# Altium schematic symbol library electromecanique.SchLib: 9 symbols
Pins are listed as number, name and electrical type; pins without a type are passive.

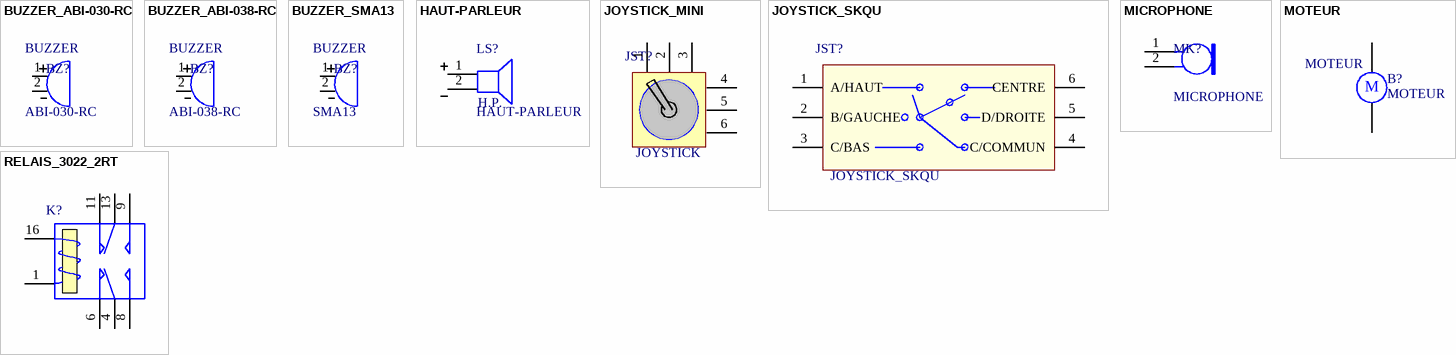
[diagram p0: symbols BUZZER_ABI-030-RC to RELAIS_3022_2RT]

## BUZZER_ABI-030-RC
designator BZ?  value ABI-030-RC  Type: BUZZER  (hidden comment: BUZZER_ABI-030-RC)
BUZZER ABI-030-RC
footprint BUZZER_ABI-030-RC (BUZZER ; DIMENSIONS:  ; ESPACEMENT BROCHES : mm)
pins: 1, 2

## BUZZER_ABI-038-RC
designator BZ?  value ABI-038-RC  Type: BUZZER  (hidden comment: BUZZER_ABI-038-RC)
BUZZER ABI-038-RC
footprint BUZZER_ABI-038-RC (BUZZER ; DIAMETRE:30mm ; ESPACEMENT BROCHES : 15mm)
pins: 1, 2

## BUZZER_SMA13
designator BZ?  value SMA13  Type: BUZZER  (hidden comment: BUZZER_SMA13)
BUZZER SMA13
footprint BUZZER_SMA13 (BUZZER SMA13 ; DIMENSIONS :13.96mm x 13.96mm ; ESPACEMENT BROCHES : 7.62mm)
pins: 1, 2

## HAUT-PARLEUR
designator LS?  Type: H.P.
footprint HAUT-PARLEUR
pins: 1, 2

## JOYSTICK_MINI
designator JST?  Type: JOYSTICK  (hidden comment: JOYSTICK_MINI)
JOYSTICK POTENTIOMETRIQUE MINIATURE RKJXK122000D
pins: 1, 2, 3, 4, 5, 6

## JOYSTICK_SKQU
designator JST?
Type: JOYSTICK_SKQU
pins: 1 A/HAUT, 2 B/GAUCHE, 3 C/BAS, 4 C/COMMUN, 5 D/DROITE, 6 CENTRE

## MICROPHONE
designator MK?
MICROPHONE - PASTILLE ELECTRET; Type: MICROPHONE
footprint MICROPHONE
pins: 1, 2

## MOTEUR
designator B?
MOTEUR COURANT CONTINU; Type: MOTEUR
pins: 1, 2
text: M

## RELAIS_3022_2RT
designator K?  (value not drawn)
RELAIS 3022_2RT; Type: RELAIS_3022
simulation model SPDTRELAY (Spice Subcircuit)
footprint RELAIS_2_CONTACTS_3022 (Relay; Mini; 2R/2T; 20 mm x 10 mm; Pin Spacing= 7.62mm/5.08mm)
pins: 1 T2, 4 COM, 6 NC, 8 NO, 9 NO, 11 NC, 13 COM, 16 T1